# EAGLE library part LTC294* (library Analog Devices)
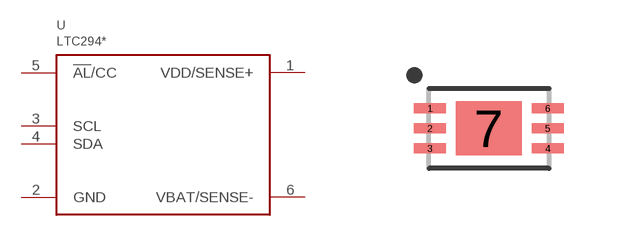
[diagram p9: symbol with the pads of DFN6; footprint DFN6]

Designator prefix U

## LTC2941, LTC2941-1, LTC2942, LTC2942-1  [DFN6]
1  VDD/SENSE+
2  GND
3  SCL
4  SDA
5  !AL!/CC
6  VBAT/SENSE-

## Footprint DFN6 (pad centres in mm)
smd 0.8 x 0.25: 1 -1.475,0.5; 2 -1.475,0; 3 -1.475,-0.5; 4 1.475,-0.5; 5 1.475,0; 6 1.475,0.5
smd 1.65 x 1.35: 7 0,0